# Altium integrated library Maxim Memory.IntLib: 366 symbols (part 5 of 7)
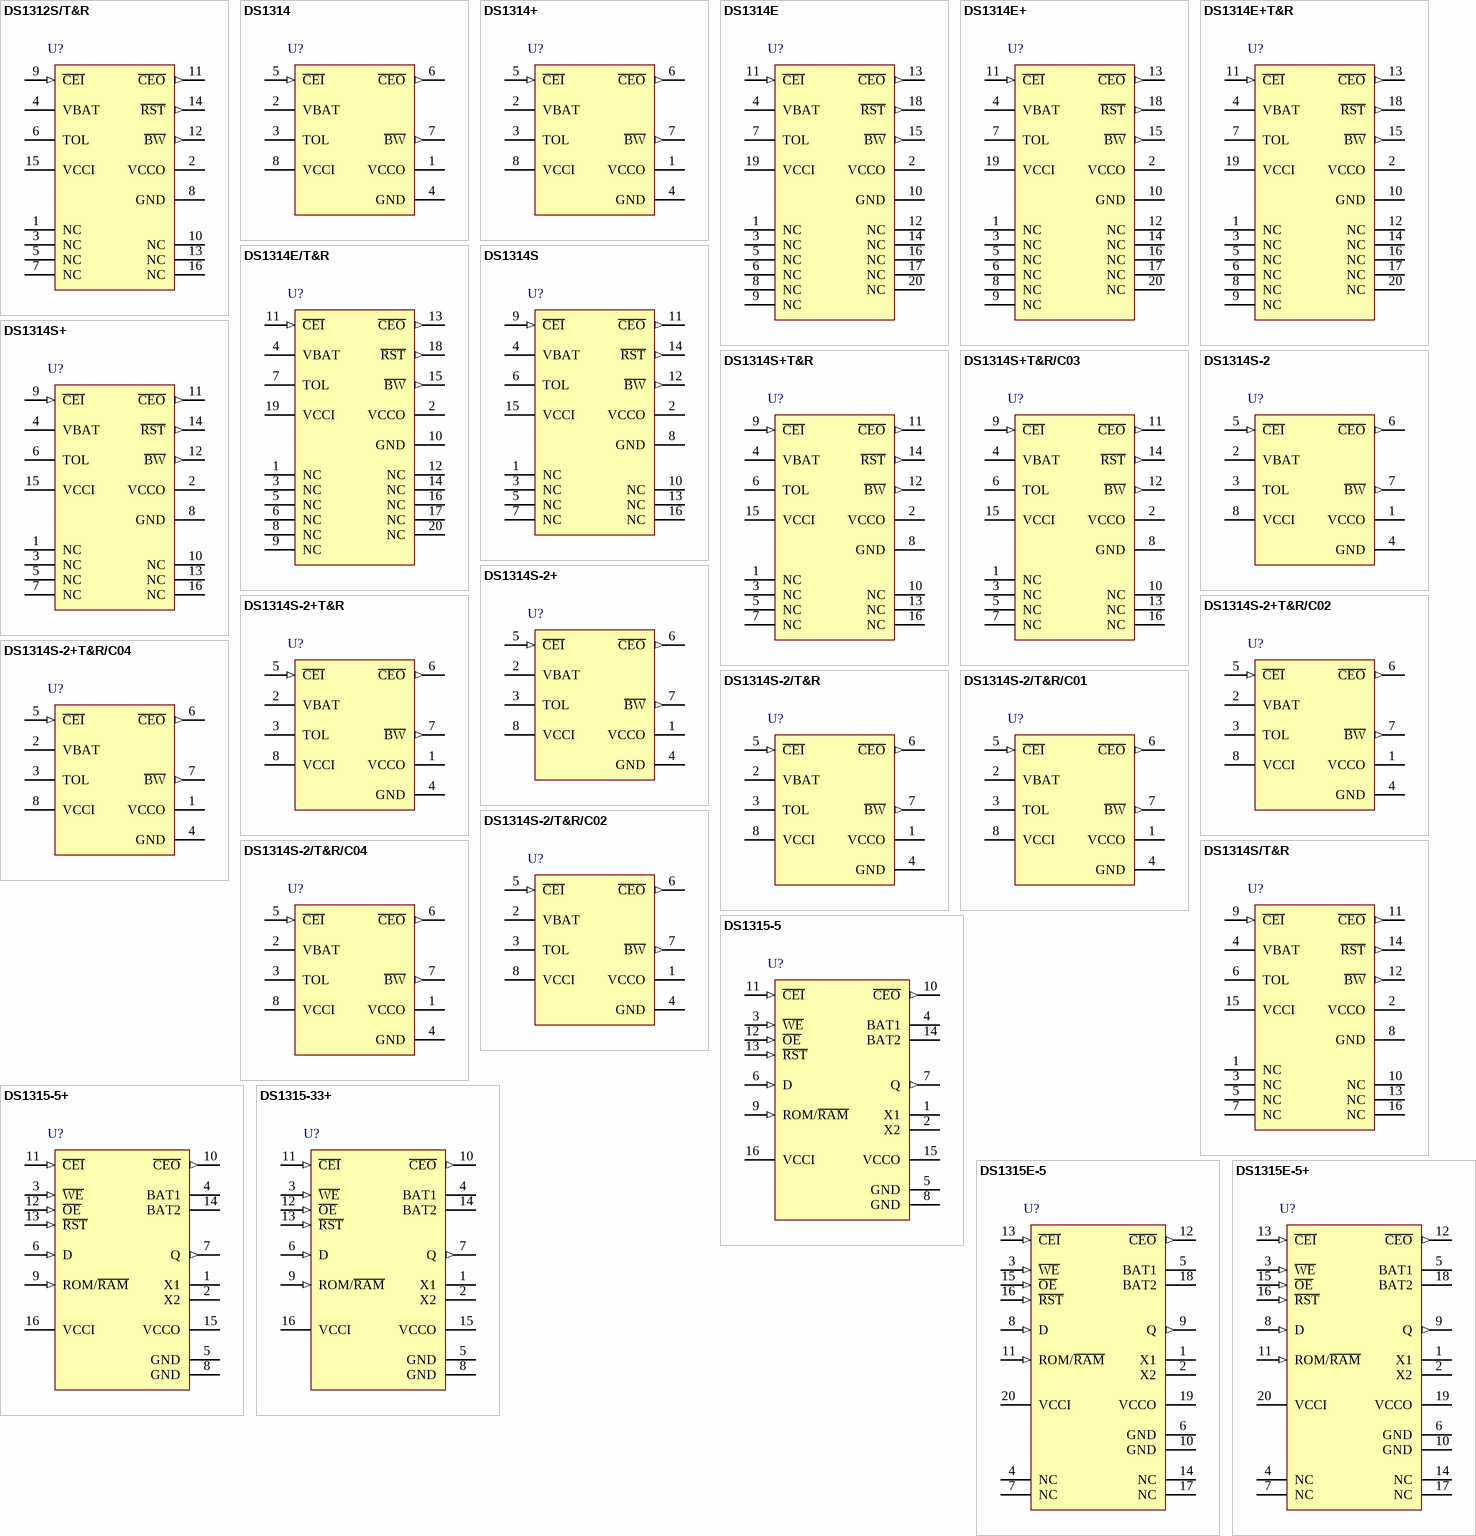
[diagram p17: symbols DS1312S/T&R to DS1315E-5+]

## DS1314E/T&R
designator U?
3V Nonvolatile Controller with Lithium Battery Monitor, 20-pin TSSOP, -40° to + 85° C, Tape and Reel; DatasheetVersion: 1/07/2005; PackageVersion: revL, 2010; PackageReference: U20-1; PackageDescription: 20-Pin Thin Shrink Small-Outline Package, 4.4 mm Body, TSSOP; Code_JEDEC: MO-153-AC; ComponentLink1Description: Manufacturer URL; ComponentLink1URL: www.maxim-ic.com; ComponentLink2Description: Datasheet; ComponentLink2URL: http://datasheets.maxim-ic.com/en/ds/DS1314.pdf
footprint U20-1_N (TSOP, 20-Leads, Body 6.5x4.4mm, Pitch 0.65mm, IPC Medium Density)
footprint U20-1_L (TSOP, 20-Leads, Body 6.5x4.4mm, Pitch 0.65mm, IPC High Density)
footprint U20-1_M (TSOP, 20-Leads, Body 6.5x4.4mm, Pitch 0.65mm, IPC Low Density)
pins: 1 NC, 2 VCCO (power), 3 NC, 4 VBAT, 5 NC, 6 NC, 7 TOL, 8 NC, 9 NC, 10 GND (power), 11 ~{CEI} (in), 12 NC, 13 ~{CEO} (out), 14 NC, 15 ~{BW} (out), 16 NC, 17 NC, 18 ~{RST} (out), 19 VCCI (power), 20 NC

## DS1314S
designator U?
3V Nonvolatile Controller with Lithium Battery Monitor, 16-pin SOIC, -40° to + 85° C; DatasheetVersion: 1/07/2005; PackageVersion: revD, 2010; PackageReference: W16-1; PackageDescription: 16-Pin Small-Outline IC, Wide (0.3in), 1.27 mm Pitch, SOIC (W); Code_JEDEC: MS-013-AA; Code_IPC: SOIC127P1030-16; ComponentLink1Description: Manufacturer URL; ComponentLink1URL: www.maxim-ic.com; ComponentLink2Description: Datasheet; ComponentLink2URL: http://datasheets.maxim-ic.com/en/ds/DS1314.pdf
footprint W16-1_N (SOIC, 16-Leads, Body 10.3x7.5mm, Pitch 1.27mm, IPC Medium Density)
footprint W16-1_L (SOIC, 16-Leads, Body 10.3x7.5mm, Pitch 1.27mm, IPC High Density)
footprint W16-1_M (SOIC, 16-Leads, Body 10.3x7.5mm, Pitch 1.27mm, IPC Low Density)
pins: 1 NC, 2 VCCO (power), 3 NC, 4 VBAT, 5 NC, 6 TOL, 7 NC, 8 GND (power), 9 ~{CEI} (in), 10 NC, 11 ~{CEO} (out), 12 ~{BW} (out), 13 NC, 14 ~{RST} (out), 15 VCCI (power), 16 NC

## DS1314S+
designator U?
3V Nonvolatile Controller with Lithium Battery Monitor, 16-pin SOIC, -40° to + 85° C, Pb-Free; DatasheetVersion: 1/07/2005; PackageVersion: revD, 2010; PackageReference: W16+1; PackageDescription: 16-Pin Small-Outline IC, Wide (0.3in), 1.27 mm Pitch, SOIC (W), Pb-Free; Code_JEDEC: MS-013-AA; Code_IPC: SOIC127P1030-16; ComponentLink1Description: Manufacturer URL; ComponentLink1URL: www.maxim-ic.com; ComponentLink2Description: Datasheet; ComponentLink2URL: http://datasheets.maxim-ic.com/en/ds/DS1314.pdf
footprint W16+1_N (SOIC, 16-Leads, Body 10.3x7.5mm, Pitch 1.27mm, IPC Medium Density)
footprint W16+1_L (SOIC, 16-Leads, Body 10.3x7.5mm, Pitch 1.27mm, IPC High Density)
footprint W16+1_M (SOIC, 16-Leads, Body 10.3x7.5mm, Pitch 1.27mm, IPC Low Density)
pins: 1 NC, 2 VCCO (power), 3 NC, 4 VBAT, 5 NC, 6 TOL, 7 NC, 8 GND (power), 9 ~{CEI} (in), 10 NC, 11 ~{CEO} (out), 12 ~{BW} (out), 13 NC, 14 ~{RST} (out), 15 VCCI (power), 16 NC

## DS1314S+T&R
designator U?
3V Nonvolatile Controller with Lithium Battery Monitor, 16-pin SOIC, -40° to + 85° C, Pb-Free, Tape and Reel; DatasheetVersion: 1/07/2005; PackageVersion: revD, 2010; PackageReference: W16+1; PackageDescription: 16-Pin Small-Outline IC, Wide (0.3in), 1.27 mm Pitch, SOIC (W), Pb-Free; Code_JEDEC: MS-013-AA; Code_IPC: SOIC127P1030-16; ComponentLink1Description: Manufacturer URL; ComponentLink1URL: www.maxim-ic.com; ComponentLink2Description: Datasheet; ComponentLink2URL: http://datasheets.maxim-ic.com/en/ds/DS1314.pdf
footprint W16+1_N (SOIC, 16-Leads, Body 10.3x7.5mm, Pitch 1.27mm, IPC Medium Density)
footprint W16+1_L (SOIC, 16-Leads, Body 10.3x7.5mm, Pitch 1.27mm, IPC High Density)
footprint W16+1_M (SOIC, 16-Leads, Body 10.3x7.5mm, Pitch 1.27mm, IPC Low Density)
pins: 1 NC, 2 VCCO (power), 3 NC, 4 VBAT, 5 NC, 6 TOL, 7 NC, 8 GND (power), 9 ~{CEI} (in), 10 NC, 11 ~{CEO} (out), 12 ~{BW} (out), 13 NC, 14 ~{RST} (out), 15 VCCI (power), 16 NC

## DS1314S+T&R/C03
designator U?
3V Nonvolatile Controller with Lithium Battery Monitor, 16-pin SOIC, -40° to + 85° C, Pb-Free, Tape and Reel; DatasheetVersion: 1/07/2005; PackageVersion: revD, 2010; PackageReference: W16+1; PackageDescription: 16-Pin Small-Outline IC, Wide (0.3in), 1.27 mm Pitch, SOIC (W), Pb-Free; Code_JEDEC: MS-013-AA; Code_IPC: SOIC127P1030-16; ComponentLink1Description: Manufacturer URL; ComponentLink1URL: www.maxim-ic.com; ComponentLink2Description: Datasheet; ComponentLink2URL: http://datasheets.maxim-ic.com/en/ds/DS1314.pdf
footprint W16+1_N (SOIC, 16-Leads, Body 10.3x7.5mm, Pitch 1.27mm, IPC Medium Density)
footprint W16+1_L (SOIC, 16-Leads, Body 10.3x7.5mm, Pitch 1.27mm, IPC High Density)
footprint W16+1_M (SOIC, 16-Leads, Body 10.3x7.5mm, Pitch 1.27mm, IPC Low Density)
pins: 1 NC, 2 VCCO (power), 3 NC, 4 VBAT, 5 NC, 6 TOL, 7 NC, 8 GND (power), 9 ~{CEI} (in), 10 NC, 11 ~{CEO} (out), 12 ~{BW} (out), 13 NC, 14 ~{RST} (out), 15 VCCI (power), 16 NC

## DS1314S-2
designator U?
3V Nonvolatile Controller with Lithium Battery Monitor, 8-pin SOIC, -40° to + 85° C; DatasheetVersion: 1/07/2005; PackageVersion: revC, 2010; PackageReference: S8-4; PackageDescription: 8-Pin Small-Outline IC, Narrow (0.15in), 1.27 mm Pitch, SOIC (N); Code_JEDEC: MS-012-AA; Code_IPC: SOIC127P600-8; ComponentLink1Description: Manufacturer URL; ComponentLink1URL: www.maxim-ic.com; ComponentLink2Description: Datasheet; ComponentLink2URL: http://datasheets.maxim-ic.com/en/ds/DS1314.pdf
footprint S8-4_N (SOIC, 8-Leads, Body 4.9x3.9mm, Pitch 1.27mm, IPC Medium Density)
footprint S8-4_L (SOIC, 8-Leads, Body 4.9x3.9mm, Pitch 1.27mm, IPC High Density)
footprint S8-4_M (SOIC, 8-Leads, Body 4.9x3.9mm, Pitch 1.27mm, IPC Low Density)
pins: 1 VCCO (power), 2 VBAT, 3 TOL, 4 GND (power), 5 ~{CEI} (in), 6 ~{CEO} (out), 7 ~{BW} (out), 8 VCCI (power)

## DS1314S-2+
designator U?
3V Nonvolatile Controller with Lithium Battery Monitor, 8-pin SOIC, -40° to + 85° C, Pb-Free; DatasheetVersion: 1/07/2005; PackageVersion: revC, 2010; PackageReference: S8+4; PackageDescription: 8-Pin Small-Outline IC, Narrow (0.15in), 1.27 mm Pitch, SOIC (N), Pb-Free; Code_JEDEC: MS-012-AA; Code_IPC: SOIC127P600-8; ComponentLink1Description: Manufacturer URL; ComponentLink1URL: www.maxim-ic.com; ComponentLink2Description: Datasheet; ComponentLink2URL: http://datasheets.maxim-ic.com/en/ds/DS1314.pdf
footprint S8+4_N (SOIC, 8-Leads, Body 4.9x3.9mm, Pitch 1.27mm, IPC Medium Density)
footprint S8+4_L (SOIC, 8-Leads, Body 4.9x3.9mm, Pitch 1.27mm, IPC High Density)
footprint S8+4_M (SOIC, 8-Leads, Body 4.9x3.9mm, Pitch 1.27mm, IPC Low Density)
pins: 1 VCCO (power), 2 VBAT, 3 TOL, 4 GND (power), 5 ~{CEI} (in), 6 ~{CEO} (out), 7 ~{BW} (out), 8 VCCI (power)

## DS1314S-2+T&R
designator U?
3V Nonvolatile Controller with Lithium Battery Monitor, 8-pin SOIC, -40° to + 85° C, Pb-Free, Tape and Reel; DatasheetVersion: 1/07/2005; PackageVersion: revC, 2010; PackageReference: S8+4; PackageDescription: 8-Pin Small-Outline IC, Narrow (0.15in), 1.27 mm Pitch, SOIC (N), Pb-Free; Code_JEDEC: MS-012-AA; Code_IPC: SOIC127P600-8; ComponentLink1Description: Manufacturer URL; ComponentLink1URL: www.maxim-ic.com; ComponentLink2Description: Datasheet; ComponentLink2URL: http://datasheets.maxim-ic.com/en/ds/DS1314.pdf
footprint S8+4_N (SOIC, 8-Leads, Body 4.9x3.9mm, Pitch 1.27mm, IPC Medium Density)
footprint S8+4_L (SOIC, 8-Leads, Body 4.9x3.9mm, Pitch 1.27mm, IPC High Density)
footprint S8+4_M (SOIC, 8-Leads, Body 4.9x3.9mm, Pitch 1.27mm, IPC Low Density)
pins: 1 VCCO (power), 2 VBAT, 3 TOL, 4 GND (power), 5 ~{CEI} (in), 6 ~{CEO} (out), 7 ~{BW} (out), 8 VCCI (power)

## DS1314S-2+T&R/C02
designator U?
3V Nonvolatile Controller with Lithium Battery Monitor, 8-pin SOIC, -40° to + 85° C, Pb-Free, Tape and Reel; DatasheetVersion: 1/07/2005; PackageVersion: revC, 2010; PackageReference: S8+4; PackageDescription: 8-Pin Small-Outline IC, Narrow (0.15in), 1.27 mm Pitch, SOIC (N), Pb-Free; Code_JEDEC: MS-012-AA; Code_IPC: SOIC127P600-8; ComponentLink1Description: Manufacturer URL; ComponentLink1URL: www.maxim-ic.com; ComponentLink2Description: Datasheet; ComponentLink2URL: http://datasheets.maxim-ic.com/en/ds/DS1314.pdf
footprint S8+4_N (SOIC, 8-Leads, Body 4.9x3.9mm, Pitch 1.27mm, IPC Medium Density)
footprint S8+4_L (SOIC, 8-Leads, Body 4.9x3.9mm, Pitch 1.27mm, IPC High Density)
footprint S8+4_M (SOIC, 8-Leads, Body 4.9x3.9mm, Pitch 1.27mm, IPC Low Density)
pins: 1 VCCO (power), 2 VBAT, 3 TOL, 4 GND (power), 5 ~{CEI} (in), 6 ~{CEO} (out), 7 ~{BW} (out), 8 VCCI (power)

## DS1314S-2+T&R/C04
designator U?
3V Nonvolatile Controller with Lithium Battery Monitor, 8-pin SOIC, -40° to + 85° C, Pb-Free, Tape and Reel; DatasheetVersion: 1/07/2005; PackageVersion: revC, 2010; PackageReference: S8+4; PackageDescription: 8-Pin Small-Outline IC, Narrow (0.15in), 1.27 mm Pitch, SOIC (N), Pb-Free; Code_JEDEC: MS-012-AA; Code_IPC: SOIC127P600-8; ComponentLink1Description: Manufacturer URL; ComponentLink1URL: www.maxim-ic.com; ComponentLink2Description: Datasheet; ComponentLink2URL: http://datasheets.maxim-ic.com/en/ds/DS1314.pdf
footprint S8+4_N (SOIC, 8-Leads, Body 4.9x3.9mm, Pitch 1.27mm, IPC Medium Density)
footprint S8+4_L (SOIC, 8-Leads, Body 4.9x3.9mm, Pitch 1.27mm, IPC High Density)
footprint S8+4_M (SOIC, 8-Leads, Body 4.9x3.9mm, Pitch 1.27mm, IPC Low Density)
pins: 1 VCCO (power), 2 VBAT, 3 TOL, 4 GND (power), 5 ~{CEI} (in), 6 ~{CEO} (out), 7 ~{BW} (out), 8 VCCI (power)

## DS1314S-2/T&R
designator U?
3V Nonvolatile Controller with Lithium Battery Monitor, 8-pin SOIC, -40° to + 85° C, Tape and Reel; DatasheetVersion: 1/07/2005; PackageVersion: revC, 2010; PackageReference: S8-4; PackageDescription: 8-Pin Small-Outline IC, Narrow (0.15in), 1.27 mm Pitch, SOIC (N); Code_JEDEC: MS-012-AA; Code_IPC: SOIC127P600-8; ComponentLink1Description: Manufacturer URL; ComponentLink1URL: www.maxim-ic.com; ComponentLink2Description: Datasheet; ComponentLink2URL: http://datasheets.maxim-ic.com/en/ds/DS1314.pdf
footprint S8-4_N (SOIC, 8-Leads, Body 4.9x3.9mm, Pitch 1.27mm, IPC Medium Density)
footprint S8-4_L (SOIC, 8-Leads, Body 4.9x3.9mm, Pitch 1.27mm, IPC High Density)
footprint S8-4_M (SOIC, 8-Leads, Body 4.9x3.9mm, Pitch 1.27mm, IPC Low Density)
pins: 1 VCCO (power), 2 VBAT, 3 TOL, 4 GND (power), 5 ~{CEI} (in), 6 ~{CEO} (out), 7 ~{BW} (out), 8 VCCI (power)

## DS1314S-2/T&R/C01
designator U?
3V Nonvolatile Controller with Lithium Battery Monitor, 8-pin SOIC, -40° to + 85° C, Tape and Reel; DatasheetVersion: 1/07/2005; PackageVersion: revC, 2010; PackageReference: S8-4; PackageDescription: 8-Pin Small-Outline IC, Narrow (0.15in), 1.27 mm Pitch, SOIC (N); Code_JEDEC: MS-012-AA; Code_IPC: SOIC127P600-8; ComponentLink1Description: Manufacturer URL; ComponentLink1URL: www.maxim-ic.com; ComponentLink2Description: Datasheet; ComponentLink2URL: http://datasheets.maxim-ic.com/en/ds/DS1314.pdf
footprint S8-4_N (SOIC, 8-Leads, Body 4.9x3.9mm, Pitch 1.27mm, IPC Medium Density)
footprint S8-4_L (SOIC, 8-Leads, Body 4.9x3.9mm, Pitch 1.27mm, IPC High Density)
footprint S8-4_M (SOIC, 8-Leads, Body 4.9x3.9mm, Pitch 1.27mm, IPC Low Density)
pins: 1 VCCO (power), 2 VBAT, 3 TOL, 4 GND (power), 5 ~{CEI} (in), 6 ~{CEO} (out), 7 ~{BW} (out), 8 VCCI (power)

## DS1314S-2/T&R/C02
designator U?
3V Nonvolatile Controller with Lithium Battery Monitor, 8-pin SOIC, -40° to + 85° C, Tape and Reel; DatasheetVersion: 1/07/2005; PackageVersion: revC, 2010; PackageReference: S8-4; PackageDescription: 8-Pin Small-Outline IC, Narrow (0.15in), 1.27 mm Pitch, SOIC (N); Code_JEDEC: MS-012-AA; Code_IPC: SOIC127P600-8; ComponentLink1Description: Manufacturer URL; ComponentLink1URL: www.maxim-ic.com; ComponentLink2Description: Datasheet; ComponentLink2URL: http://datasheets.maxim-ic.com/en/ds/DS1314.pdf
footprint S8-4_N (SOIC, 8-Leads, Body 4.9x3.9mm, Pitch 1.27mm, IPC Medium Density)
footprint S8-4_L (SOIC, 8-Leads, Body 4.9x3.9mm, Pitch 1.27mm, IPC High Density)
footprint S8-4_M (SOIC, 8-Leads, Body 4.9x3.9mm, Pitch 1.27mm, IPC Low Density)
pins: 1 VCCO (power), 2 VBAT, 3 TOL, 4 GND (power), 5 ~{CEI} (in), 6 ~{CEO} (out), 7 ~{BW} (out), 8 VCCI (power)

## DS1314S-2/T&R/C04
designator U?
3V Nonvolatile Controller with Lithium Battery Monitor, 8-pin SOIC, -40° to + 85° C, Tape and Reel; DatasheetVersion: 1/07/2005; PackageVersion: revC, 2010; PackageReference: S8-4; PackageDescription: 8-Pin Small-Outline IC, Narrow (0.15in), 1.27 mm Pitch, SOIC (N); Code_JEDEC: MS-012-AA; Code_IPC: SOIC127P600-8; ComponentLink1Description: Manufacturer URL; ComponentLink1URL: www.maxim-ic.com; ComponentLink2Description: Datasheet; ComponentLink2URL: http://datasheets.maxim-ic.com/en/ds/DS1314.pdf
footprint S8-4_N (SOIC, 8-Leads, Body 4.9x3.9mm, Pitch 1.27mm, IPC Medium Density)
footprint S8-4_L (SOIC, 8-Leads, Body 4.9x3.9mm, Pitch 1.27mm, IPC High Density)
footprint S8-4_M (SOIC, 8-Leads, Body 4.9x3.9mm, Pitch 1.27mm, IPC Low Density)
pins: 1 VCCO (power), 2 VBAT, 3 TOL, 4 GND (power), 5 ~{CEI} (in), 6 ~{CEO} (out), 7 ~{BW} (out), 8 VCCI (power)

## DS1314S/T&R
designator U?
3V Nonvolatile Controller with Lithium Battery Monitor, 16-pin SOIC, -40° to + 85° C, Tape and Reel; DatasheetVersion: 1/07/2005; PackageVersion: revD, 2010; PackageReference: W16-1; PackageDescription: 16-Pin Small-Outline IC, Wide (0.3in), 1.27 mm Pitch, SOIC (W); Code_JEDEC: MS-013-AA; Code_IPC: SOIC127P1030-16; ComponentLink1Description: Manufacturer URL; ComponentLink1URL: www.maxim-ic.com; ComponentLink2Description: Datasheet; ComponentLink2URL: http://datasheets.maxim-ic.com/en/ds/DS1314.pdf
footprint W16-1_N (SOIC, 16-Leads, Body 10.3x7.5mm, Pitch 1.27mm, IPC Medium Density)
footprint W16-1_L (SOIC, 16-Leads, Body 10.3x7.5mm, Pitch 1.27mm, IPC High Density)
footprint W16-1_M (SOIC, 16-Leads, Body 10.3x7.5mm, Pitch 1.27mm, IPC Low Density)
pins: 1 NC, 2 VCCO (power), 3 NC, 4 VBAT, 5 NC, 6 TOL, 7 NC, 8 GND (power), 9 ~{CEI} (in), 10 NC, 11 ~{CEO} (out), 12 ~{BW} (out), 13 NC, 14 ~{RST} (out), 15 VCCI (power), 16 NC

## DS1315-5
designator U?
Phantom Time Chip, 16-pin PDIP, 0° to + 70° C; DatasheetVersion: 1/05/2009; PackageVersion: revE, 2011; PackageReference: P16-1; PackageDescription: 16-Pin Plastic Dual-In-Line, Narrow (0.3in), Pitch 2.54 mm, PDIP(N); Code_JEDEC: MS-001-AA; ComponentLink1Description: Manufacturer URL; ComponentLink1URL: www.maxim-ic.com; ComponentLink2Description: Datasheet; ComponentLink2URL: http://datasheets.maxim-ic.com/en/ds/DS1315.pdf
footprint P16-1 (DIP, 16-Leads, Row Spacing 7.62mm, Pitch 2.54mm, Body 19.2x7mm)
pins: 1 X1, 2 X2, 3 ~{WE} (in), 4 BAT1, 5 GND (power), 6 D (in), 7 Q (out), 8 GND (power), 9 ROM/~{RAM} (in), 10 ~{CEO} (out), 11 ~{CEI} (in), 12 ~{OE} (in), 13 ~{RST} (in), 14 BAT2, 15 VCCO (power), 16 VCCI (power)

## DS1315-5+
designator U?
Phantom Time Chip, 16-pin PDIP, 0° to + 70° C, Pb-Free; DatasheetVersion: 1/05/2009; PackageVersion: revE, 2011; PackageReference: P16+2; PackageDescription: 16-Pin Plastic Dual-In-Line, Narrow (0.3in), Pitch 2.54 mm, PDIP(N), Pb-Free; Code_JEDEC: MS-001-AA; ComponentLink1Description: Manufacturer URL; ComponentLink1URL: www.maxim-ic.com; ComponentLink2Description: Datasheet; ComponentLink2URL: http://datasheets.maxim-ic.com/en/ds/DS1315.pdf
footprint P16+2 (DIP, 16-Leads, Row Spacing 7.62mm, Pitch 2.54mm, Body 19.2x7mm)
pins: 1 X1, 2 X2, 3 ~{WE} (in), 4 BAT1, 5 GND (power), 6 D (in), 7 Q (out), 8 GND (power), 9 ROM/~{RAM} (in), 10 ~{CEO} (out), 11 ~{CEI} (in), 12 ~{OE} (in), 13 ~{RST} (in), 14 BAT2, 15 VCCO (power), 16 VCCI (power)

## DS1315-33+
designator U?
Phantom Time Chip, 16-pin PDIP, 0° to + 70° C, Pb-Free; DatasheetVersion: 1/05/2009; PackageVersion: revE, 2011; PackageReference: P16+1; PackageDescription: 16-Pin Plastic Dual-In-Line, Narrow (0.3in), Pitch 2.54 mm, PDIP(N), Pb-Free; Code_JEDEC: MS-001-AA; ComponentLink1Description: Manufacturer URL; ComponentLink1URL: www.maxim-ic.com; ComponentLink2Description: Datasheet; ComponentLink2URL: http://datasheets.maxim-ic.com/en/ds/DS1315.pdf
footprint P16+1 (DIP, 16-Leads, Row Spacing 7.62mm, Pitch 2.54mm, Body 19.2x7mm)
pins: 1 X1, 2 X2, 3 ~{WE} (in), 4 BAT1, 5 GND (power), 6 D (in), 7 Q (out), 8 GND (power), 9 ROM/~{RAM} (in), 10 ~{CEO} (out), 11 ~{CEI} (in), 12 ~{OE} (in), 13 ~{RST} (in), 14 BAT2, 15 VCCO (power), 16 VCCI (power)

## DS1315E-5
designator U?
Phantom Time Chip, 20-pin TSSOP, 0° to + 70° C; DatasheetVersion: 1/05/2009; PackageVersion: revL, 2010; PackageReference: U20-1; PackageDescription: 20-Pin Thin Shrink Small-Outline Package, 4.4 mm Body, TSSOP; Code_JEDEC: MO-153-AC; ComponentLink1Description: Manufacturer URL; ComponentLink1URL: www.maxim-ic.com; ComponentLink2Description: Datasheet; ComponentLink2URL: http://datasheets.maxim-ic.com/en/ds/DS1315.pdf
footprint U20-1_N (TSOP, 20-Leads, Body 6.5x4.4mm, Pitch 0.65mm, IPC Medium Density)
footprint U20-1_L (TSOP, 20-Leads, Body 6.5x4.4mm, Pitch 0.65mm, IPC High Density)
footprint U20-1_M (TSOP, 20-Leads, Body 6.5x4.4mm, Pitch 0.65mm, IPC Low Density)
pins: 1 X1, 2 X2, 3 ~{WE} (in), 4 NC, 5 BAT1, 6 GND (power), 7 NC, 8 D (in), 9 Q (out), 10 GND (power), 11 ROM/~{RAM} (in), 12 ~{CEO} (out), 13 ~{CEI} (in), 14 NC, 15 ~{OE} (in), 16 ~{RST} (in), 17 NC, 18 BAT2, 19 VCCO (power), 20 VCCI (power)

## DS1315E-5+
designator U?
Phantom Time Chip, 20-pin TSSOP, 0° to + 70° C, Pb-Free; DatasheetVersion: 1/05/2009; PackageVersion: revL, 2010; PackageReference: U20+1; PackageDescription: 20-Pin Thin Shrink Small-Outline Package, 4.4 mm Body, TSSOP, Pb-Free; Code_JEDEC: MO-153-AC; ComponentLink1Description: Manufacturer URL; ComponentLink1URL: www.maxim-ic.com; ComponentLink2Description: Datasheet; ComponentLink2URL: http://datasheets.maxim-ic.com/en/ds/DS1315.pdf
footprint U20+1_N (TSOP, 20-Leads, Body 6.5x4.4mm, Pitch 0.65mm, IPC Medium Density)
footprint U20+1_L (TSOP, 20-Leads, Body 6.5x4.4mm, Pitch 0.65mm, IPC High Density)
footprint U20+1_M (TSOP, 20-Leads, Body 6.5x4.4mm, Pitch 0.65mm, IPC Low Density)
pins: 1 X1, 2 X2, 3 ~{WE} (in), 4 NC, 5 BAT1, 6 GND (power), 7 NC, 8 D (in), 9 Q (out), 10 GND (power), 11 ROM/~{RAM} (in), 12 ~{CEO} (out), 13 ~{CEI} (in), 14 NC, 15 ~{OE} (in), 16 ~{RST} (in), 17 NC, 18 BAT2, 19 VCCO (power), 20 VCCI (power)

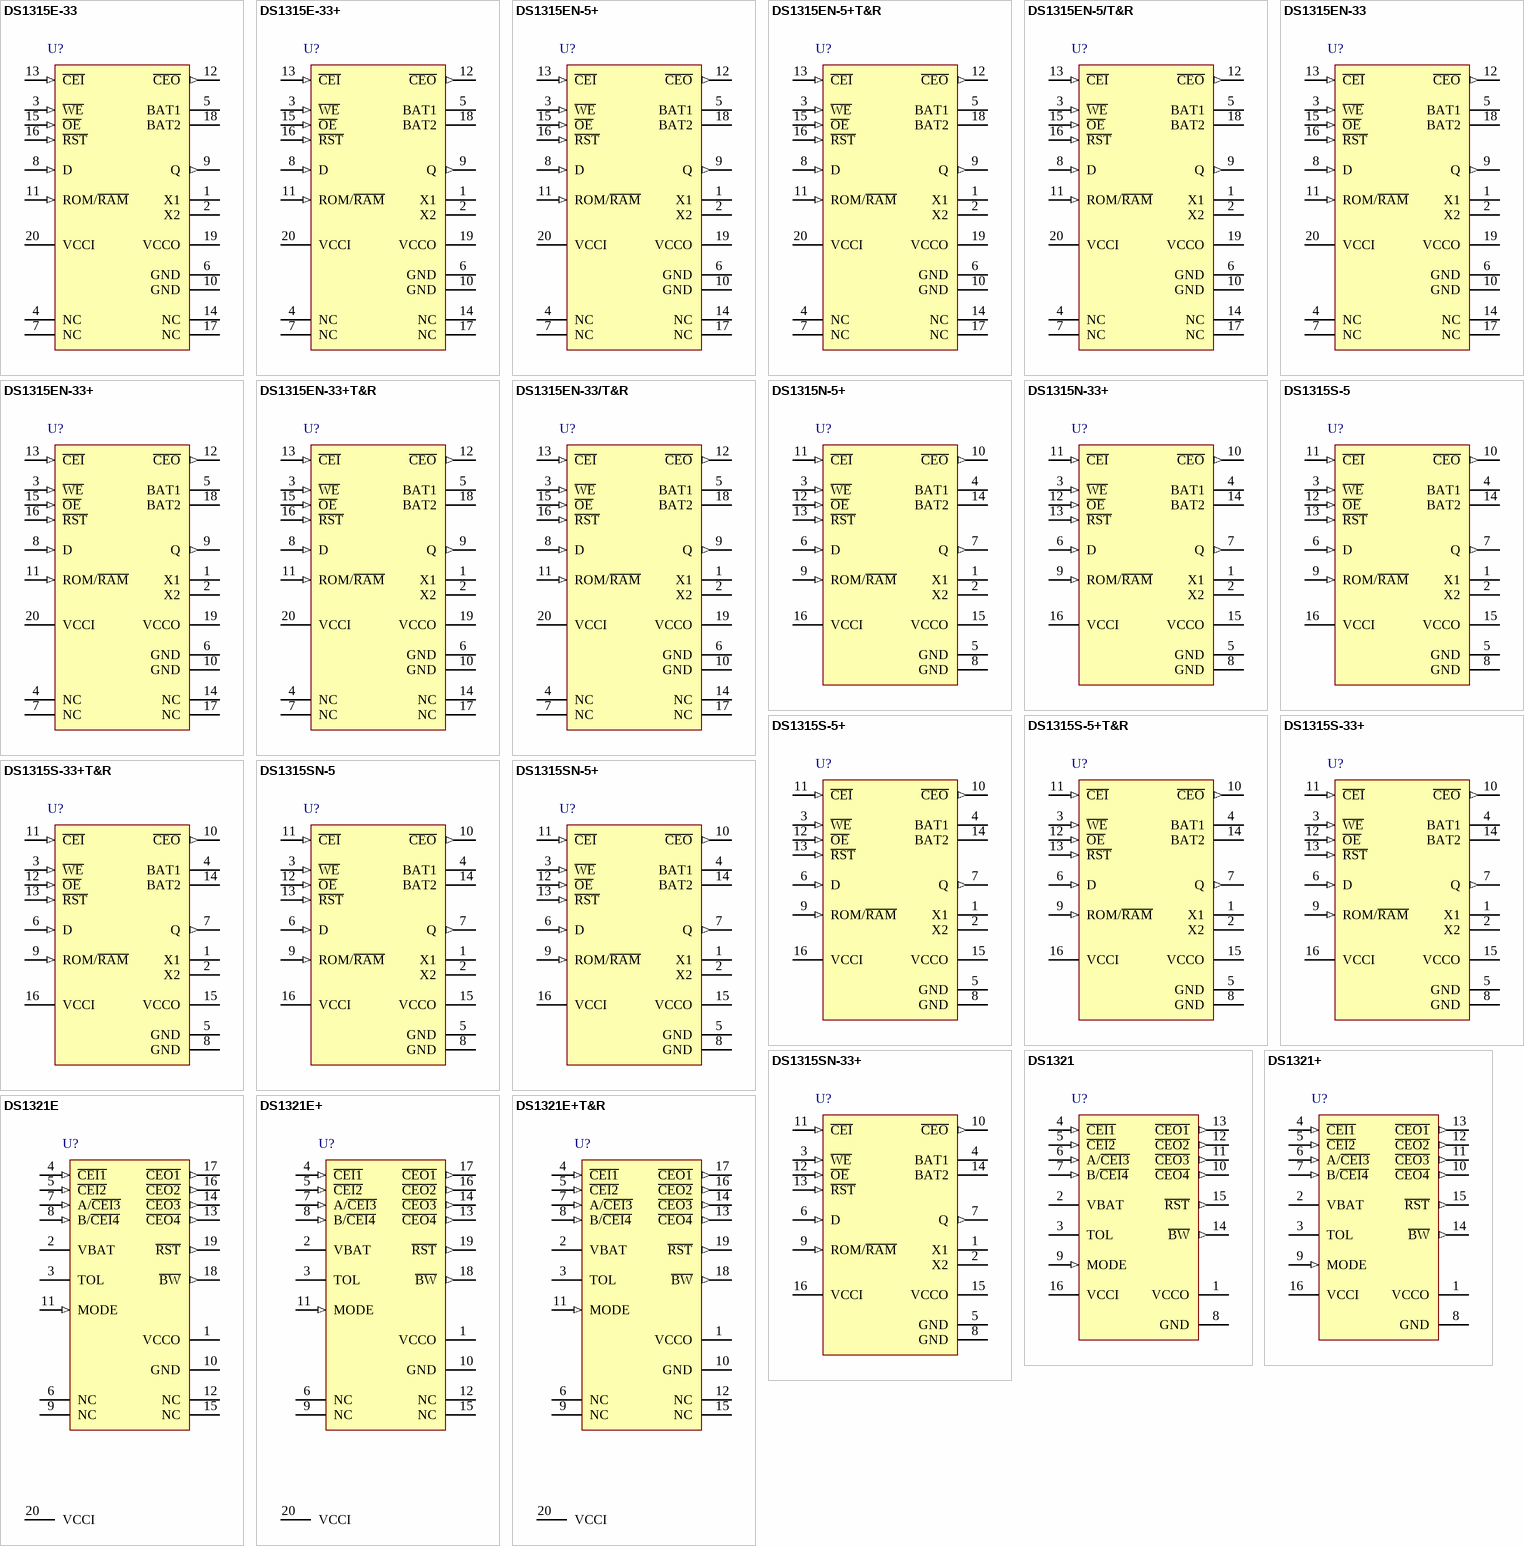
[diagram p9: symbols DS1315E-33 to DS1321E+T&R]

## DS1315E-33
designator U?
Phantom Time Chip, 20-pin TSSOP, 0° to + 70° C; DatasheetVersion: 1/05/2009; PackageVersion: revL, 2010; PackageReference: U20-1; PackageDescription: 20-Pin Thin Shrink Small-Outline Package, 4.4 mm Body, TSSOP; Code_JEDEC: MO-153-AC; ComponentLink1Description: Manufacturer URL; ComponentLink1URL: www.maxim-ic.com; ComponentLink2Description: Datasheet; ComponentLink2URL: http://datasheets.maxim-ic.com/en/ds/DS1315.pdf
footprint U20-1_N (TSOP, 20-Leads, Body 6.5x4.4mm, Pitch 0.65mm, IPC Medium Density)
footprint U20-1_L (TSOP, 20-Leads, Body 6.5x4.4mm, Pitch 0.65mm, IPC High Density)
footprint U20-1_M (TSOP, 20-Leads, Body 6.5x4.4mm, Pitch 0.65mm, IPC Low Density)
pins: 1 X1, 2 X2, 3 ~{WE} (in), 4 NC, 5 BAT1, 6 GND (power), 7 NC, 8 D (in), 9 Q (out), 10 GND (power), 11 ROM/~{RAM} (in), 12 ~{CEO} (out), 13 ~{CEI} (in), 14 NC, 15 ~{OE} (in), 16 ~{RST} (in), 17 NC, 18 BAT2, 19 VCCO (power), 20 VCCI (power)

## DS1315E-33+
designator U?
Phantom Time Chip, 20-pin TSSOP, 0° to + 70° C, Pb-Free; DatasheetVersion: 1/05/2009; PackageVersion: revL, 2010; PackageReference: U20+1; PackageDescription: 20-Pin Thin Shrink Small-Outline Package, 4.4 mm Body, TSSOP, Pb-Free; Code_JEDEC: MO-153-AC; ComponentLink1Description: Manufacturer URL; ComponentLink1URL: www.maxim-ic.com; ComponentLink2Description: Datasheet; ComponentLink2URL: http://datasheets.maxim-ic.com/en/ds/DS1315.pdf
footprint U20+1_N (TSOP, 20-Leads, Body 6.5x4.4mm, Pitch 0.65mm, IPC Medium Density)
footprint U20+1_L (TSOP, 20-Leads, Body 6.5x4.4mm, Pitch 0.65mm, IPC High Density)
footprint U20+1_M (TSOP, 20-Leads, Body 6.5x4.4mm, Pitch 0.65mm, IPC Low Density)
pins: 1 X1, 2 X2, 3 ~{WE} (in), 4 NC, 5 BAT1, 6 GND (power), 7 NC, 8 D (in), 9 Q (out), 10 GND (power), 11 ROM/~{RAM} (in), 12 ~{CEO} (out), 13 ~{CEI} (in), 14 NC, 15 ~{OE} (in), 16 ~{RST} (in), 17 NC, 18 BAT2, 19 VCCO (power), 20 VCCI (power)

## DS1315EN-5+
designator U?
Phantom Time Chip, 20-pin TSSOP, -40° to + 85° C, Pb-Free; DatasheetVersion: 1/05/2009; PackageVersion: revL, 2010; PackageReference: U20+1; PackageDescription: 20-Pin Thin Shrink Small-Outline Package, 4.4 mm Body, TSSOP, Pb-Free; Code_JEDEC: MO-153-AC; ComponentLink1Description: Manufacturer URL; ComponentLink1URL: www.maxim-ic.com; ComponentLink2Description: Datasheet; ComponentLink2URL: http://datasheets.maxim-ic.com/en/ds/DS1315.pdf
footprint U20+1_N (TSOP, 20-Leads, Body 6.5x4.4mm, Pitch 0.65mm, IPC Medium Density)
footprint U20+1_L (TSOP, 20-Leads, Body 6.5x4.4mm, Pitch 0.65mm, IPC High Density)
footprint U20+1_M (TSOP, 20-Leads, Body 6.5x4.4mm, Pitch 0.65mm, IPC Low Density)
pins: 1 X1, 2 X2, 3 ~{WE} (in), 4 NC, 5 BAT1, 6 GND (power), 7 NC, 8 D (in), 9 Q (out), 10 GND (power), 11 ROM/~{RAM} (in), 12 ~{CEO} (out), 13 ~{CEI} (in), 14 NC, 15 ~{OE} (in), 16 ~{RST} (in), 17 NC, 18 BAT2, 19 VCCO (power), 20 VCCI (power)

## DS1315EN-5+T&R
designator U?
Phantom Time Chip, 20-pin TSSOP, -40° to + 85° C, Pb-Free, Tape and Reel; DatasheetVersion: 1/05/2009; PackageVersion: revL, 2010; PackageReference: U20+1; PackageDescription: 20-Pin Thin Shrink Small-Outline Package, 4.4 mm Body, TSSOP, Pb-Free; Code_JEDEC: MO-153-AC; ComponentLink1Description: Manufacturer URL; ComponentLink1URL: www.maxim-ic.com; ComponentLink2Description: Datasheet; ComponentLink2URL: http://datasheets.maxim-ic.com/en/ds/DS1315.pdf
footprint U20+1_N (TSOP, 20-Leads, Body 6.5x4.4mm, Pitch 0.65mm, IPC Medium Density)
footprint U20+1_L (TSOP, 20-Leads, Body 6.5x4.4mm, Pitch 0.65mm, IPC High Density)
footprint U20+1_M (TSOP, 20-Leads, Body 6.5x4.4mm, Pitch 0.65mm, IPC Low Density)
pins: 1 X1, 2 X2, 3 ~{WE} (in), 4 NC, 5 BAT1, 6 GND (power), 7 NC, 8 D (in), 9 Q (out), 10 GND (power), 11 ROM/~{RAM} (in), 12 ~{CEO} (out), 13 ~{CEI} (in), 14 NC, 15 ~{OE} (in), 16 ~{RST} (in), 17 NC, 18 BAT2, 19 VCCO (power), 20 VCCI (power)

## DS1315EN-5/T&R
designator U?
Phantom Time Chip, 20-pin TSSOP, -40° to + 85° C, Tape and Reel; DatasheetVersion: 1/05/2009; PackageVersion: revL, 2010; PackageReference: U20-1; PackageDescription: 20-Pin Thin Shrink Small-Outline Package, 4.4 mm Body, TSSOP; Code_JEDEC: MO-153-AC; ComponentLink1Description: Manufacturer URL; ComponentLink1URL: www.maxim-ic.com; ComponentLink2Description: Datasheet; ComponentLink2URL: http://datasheets.maxim-ic.com/en/ds/DS1315.pdf
footprint U20-1_N (TSOP, 20-Leads, Body 6.5x4.4mm, Pitch 0.65mm, IPC Medium Density)
footprint U20-1_L (TSOP, 20-Leads, Body 6.5x4.4mm, Pitch 0.65mm, IPC High Density)
footprint U20-1_M (TSOP, 20-Leads, Body 6.5x4.4mm, Pitch 0.65mm, IPC Low Density)
pins: 1 X1, 2 X2, 3 ~{WE} (in), 4 NC, 5 BAT1, 6 GND (power), 7 NC, 8 D (in), 9 Q (out), 10 GND (power), 11 ROM/~{RAM} (in), 12 ~{CEO} (out), 13 ~{CEI} (in), 14 NC, 15 ~{OE} (in), 16 ~{RST} (in), 17 NC, 18 BAT2, 19 VCCO (power), 20 VCCI (power)

## DS1315EN-33
designator U?
Phantom Time Chip, 20-pin TSSOP, -40° to + 85° C; DatasheetVersion: 1/05/2009; PackageVersion: revL, 2010; PackageReference: U20-1; PackageDescription: 20-Pin Thin Shrink Small-Outline Package, 4.4 mm Body, TSSOP; Code_JEDEC: MO-153-AC; ComponentLink1Description: Manufacturer URL; ComponentLink1URL: www.maxim-ic.com; ComponentLink2Description: Datasheet; ComponentLink2URL: http://datasheets.maxim-ic.com/en/ds/DS1315.pdf
footprint U20-1_N (TSOP, 20-Leads, Body 6.5x4.4mm, Pitch 0.65mm, IPC Medium Density)
footprint U20-1_L (TSOP, 20-Leads, Body 6.5x4.4mm, Pitch 0.65mm, IPC High Density)
footprint U20-1_M (TSOP, 20-Leads, Body 6.5x4.4mm, Pitch 0.65mm, IPC Low Density)
pins: 1 X1, 2 X2, 3 ~{WE} (in), 4 NC, 5 BAT1, 6 GND (power), 7 NC, 8 D (in), 9 Q (out), 10 GND (power), 11 ROM/~{RAM} (in), 12 ~{CEO} (out), 13 ~{CEI} (in), 14 NC, 15 ~{OE} (in), 16 ~{RST} (in), 17 NC, 18 BAT2, 19 VCCO (power), 20 VCCI (power)

## DS1315EN-33+
designator U?
Phantom Time Chip, 20-pin TSSOP, -40° to + 85° C, Pb-Free; DatasheetVersion: 1/05/2009; PackageVersion: revL, 2010; PackageReference: U20+1; PackageDescription: 20-Pin Thin Shrink Small-Outline Package, 4.4 mm Body, TSSOP, Pb-Free; Code_JEDEC: MO-153-AC; ComponentLink1Description: Manufacturer URL; ComponentLink1URL: www.maxim-ic.com; ComponentLink2Description: Datasheet; ComponentLink2URL: http://datasheets.maxim-ic.com/en/ds/DS1315.pdf
footprint U20+1_N (TSOP, 20-Leads, Body 6.5x4.4mm, Pitch 0.65mm, IPC Medium Density)
footprint U20+1_L (TSOP, 20-Leads, Body 6.5x4.4mm, Pitch 0.65mm, IPC High Density)
footprint U20+1_M (TSOP, 20-Leads, Body 6.5x4.4mm, Pitch 0.65mm, IPC Low Density)
pins: 1 X1, 2 X2, 3 ~{WE} (in), 4 NC, 5 BAT1, 6 GND (power), 7 NC, 8 D (in), 9 Q (out), 10 GND (power), 11 ROM/~{RAM} (in), 12 ~{CEO} (out), 13 ~{CEI} (in), 14 NC, 15 ~{OE} (in), 16 ~{RST} (in), 17 NC, 18 BAT2, 19 VCCO (power), 20 VCCI (power)

## DS1315EN-33+T&R
designator U?
Phantom Time Chip, 20-pin TSSOP, -40° to + 85° C, Pb-Free, Tape and Reel; DatasheetVersion: 1/05/2009; PackageVersion: revL, 2010; PackageReference: U20+1; PackageDescription: 20-Pin Thin Shrink Small-Outline Package, 4.4 mm Body, TSSOP, Pb-Free; Code_JEDEC: MO-153-AC; ComponentLink1Description: Manufacturer URL; ComponentLink1URL: www.maxim-ic.com; ComponentLink2Description: Datasheet; ComponentLink2URL: http://datasheets.maxim-ic.com/en/ds/DS1315.pdf
footprint U20+1_N (TSOP, 20-Leads, Body 6.5x4.4mm, Pitch 0.65mm, IPC Medium Density)
footprint U20+1_L (TSOP, 20-Leads, Body 6.5x4.4mm, Pitch 0.65mm, IPC High Density)
footprint U20+1_M (TSOP, 20-Leads, Body 6.5x4.4mm, Pitch 0.65mm, IPC Low Density)
pins: 1 X1, 2 X2, 3 ~{WE} (in), 4 NC, 5 BAT1, 6 GND (power), 7 NC, 8 D (in), 9 Q (out), 10 GND (power), 11 ROM/~{RAM} (in), 12 ~{CEO} (out), 13 ~{CEI} (in), 14 NC, 15 ~{OE} (in), 16 ~{RST} (in), 17 NC, 18 BAT2, 19 VCCO (power), 20 VCCI (power)

## DS1315EN-33/T&R
designator U?
Phantom Time Chip, 20-pin TSSOP, -40° to + 85° C, Tape and Reel; DatasheetVersion: 1/05/2009; PackageVersion: revL, 2010; PackageReference: U20-1; PackageDescription: 20-Pin Thin Shrink Small-Outline Package, 4.4 mm Body, TSSOP; Code_JEDEC: MO-153-AC; ComponentLink1Description: Manufacturer URL; ComponentLink1URL: www.maxim-ic.com; ComponentLink2Description: Datasheet; ComponentLink2URL: http://datasheets.maxim-ic.com/en/ds/DS1315.pdf
footprint U20-1_N (TSOP, 20-Leads, Body 6.5x4.4mm, Pitch 0.65mm, IPC Medium Density)
footprint U20-1_L (TSOP, 20-Leads, Body 6.5x4.4mm, Pitch 0.65mm, IPC High Density)
footprint U20-1_M (TSOP, 20-Leads, Body 6.5x4.4mm, Pitch 0.65mm, IPC Low Density)
pins: 1 X1, 2 X2, 3 ~{WE} (in), 4 NC, 5 BAT1, 6 GND (power), 7 NC, 8 D (in), 9 Q (out), 10 GND (power), 11 ROM/~{RAM} (in), 12 ~{CEO} (out), 13 ~{CEI} (in), 14 NC, 15 ~{OE} (in), 16 ~{RST} (in), 17 NC, 18 BAT2, 19 VCCO (power), 20 VCCI (power)

## DS1315N-5+
designator U?
Phantom Time Chip, 16-pin PDIP, -40° to + 85° C, Pb-Free; DatasheetVersion: 1/05/2009; PackageVersion: revE, 2011; PackageReference: P16+1; PackageDescription: 16-Pin Plastic Dual-In-Line, Narrow (0.3in), Pitch 2.54 mm, PDIP(N), Pb-Free; Code_JEDEC: MS-001-AA; ComponentLink1Description: Manufacturer URL; ComponentLink1URL: www.maxim-ic.com; ComponentLink2Description: Datasheet; ComponentLink2URL: http://datasheets.maxim-ic.com/en/ds/DS1315.pdf
footprint P16+1 (DIP, 16-Leads, Row Spacing 7.62mm, Pitch 2.54mm, Body 19.2x7mm)
pins: 1 X1, 2 X2, 3 ~{WE} (in), 4 BAT1, 5 GND (power), 6 D (in), 7 Q (out), 8 GND (power), 9 ROM/~{RAM} (in), 10 ~{CEO} (out), 11 ~{CEI} (in), 12 ~{OE} (in), 13 ~{RST} (in), 14 BAT2, 15 VCCO (power), 16 VCCI (power)

## DS1315N-33+
designator U?
Phantom Time Chip, 16-pin PDIP, -40° to + 85° C, Pb-Free; DatasheetVersion: 1/05/2009; PackageVersion: revE, 2011; PackageReference: P16+1; PackageDescription: 16-Pin Plastic Dual-In-Line, Narrow (0.3in), Pitch 2.54 mm, PDIP(N), Pb-Free; Code_JEDEC: MS-001-AA; ComponentLink1Description: Manufacturer URL; ComponentLink1URL: www.maxim-ic.com; ComponentLink2Description: Datasheet; ComponentLink2URL: http://datasheets.maxim-ic.com/en/ds/DS1315.pdf
footprint P16+1 (DIP, 16-Leads, Row Spacing 7.62mm, Pitch 2.54mm, Body 19.2x7mm)
pins: 1 X1, 2 X2, 3 ~{WE} (in), 4 BAT1, 5 GND (power), 6 D (in), 7 Q (out), 8 GND (power), 9 ROM/~{RAM} (in), 10 ~{CEO} (out), 11 ~{CEI} (in), 12 ~{OE} (in), 13 ~{RST} (in), 14 BAT2, 15 VCCO (power), 16 VCCI (power)

## DS1315S-5
designator U?
Phantom Time Chip, 16-pin SOIC, 0° to + 70° C; DatasheetVersion: 1/05/2009; PackageVersion: revD, 2010; PackageReference: W16-2; PackageDescription: 16-Pin Small-Outline IC, Wide (0.3in), 1.27 mm Pitch, SOIC (W); Code_JEDEC: MS-013-AA; Code_IPC: SOIC127P1030-16; ComponentLink1Description: Manufacturer URL; ComponentLink1URL: www.maxim-ic.com; ComponentLink2Description: Datasheet; ComponentLink2URL: http://datasheets.maxim-ic.com/en/ds/DS1315.pdf
footprint W16-2_N (SOIC, 16-Leads, Body 10.3x7.5mm, Pitch 1.27mm, IPC Medium Density)
footprint W16-2_L (SOIC, 16-Leads, Body 10.3x7.5mm, Pitch 1.27mm, IPC High Density)
footprint W16-2_M (SOIC, 16-Leads, Body 10.3x7.5mm, Pitch 1.27mm, IPC Low Density)
pins: 1 X1, 2 X2, 3 ~{WE} (in), 4 BAT1, 5 GND (power), 6 D (in), 7 Q (out), 8 GND (power), 9 ROM/~{RAM} (in), 10 ~{CEO} (out), 11 ~{CEI} (in), 12 ~{OE} (in), 13 ~{RST} (in), 14 BAT2, 15 VCCO (power), 16 VCCI (power)

## DS1315S-5+
designator U?
Phantom Time Chip, 16-pin SOIC, 0° to + 70° C, Pb-Free; DatasheetVersion: 1/05/2009; PackageVersion: revD, 2010; PackageReference: W16+2; PackageDescription: 16-Pin Small-Outline IC, Wide (0.3in), 1.27 mm Pitch, SOIC (W), Pb-Free; Code_JEDEC: MS-013-AA; Code_IPC: SOIC127P1030-16; ComponentLink1Description: Manufacturer URL; ComponentLink1URL: www.maxim-ic.com; ComponentLink2Description: Datasheet; ComponentLink2URL: http://datasheets.maxim-ic.com/en/ds/DS1315.pdf
footprint W16+2_N (SOIC, 16-Leads, Body 10.3x7.5mm, Pitch 1.27mm, IPC Medium Density)
footprint W16+2_L (SOIC, 16-Leads, Body 10.3x7.5mm, Pitch 1.27mm, IPC High Density)
footprint W16+2_M (SOIC, 16-Leads, Body 10.3x7.5mm, Pitch 1.27mm, IPC Low Density)
pins: 1 X1, 2 X2, 3 ~{WE} (in), 4 BAT1, 5 GND (power), 6 D (in), 7 Q (out), 8 GND (power), 9 ROM/~{RAM} (in), 10 ~{CEO} (out), 11 ~{CEI} (in), 12 ~{OE} (in), 13 ~{RST} (in), 14 BAT2, 15 VCCO (power), 16 VCCI (power)

## DS1315S-5+T&R
designator U?
Phantom Time Chip, 16-pin SOIC, 0° to + 70° C, Pb-Free, Tape and Reel; DatasheetVersion: 1/05/2009; PackageVersion: revD, 2010; PackageReference: W16+2; PackageDescription: 16-Pin Small-Outline IC, Wide (0.3in), 1.27 mm Pitch, SOIC (W), Pb-Free; Code_JEDEC: MS-013-AA; Code_IPC: SOIC127P1030-16; ComponentLink1Description: Manufacturer URL; ComponentLink1URL: www.maxim-ic.com; ComponentLink2Description: Datasheet; ComponentLink2URL: http://datasheets.maxim-ic.com/en/ds/DS1315.pdf
footprint W16+2_N (SOIC, 16-Leads, Body 10.3x7.5mm, Pitch 1.27mm, IPC Medium Density)
footprint W16+2_L (SOIC, 16-Leads, Body 10.3x7.5mm, Pitch 1.27mm, IPC High Density)
footprint W16+2_M (SOIC, 16-Leads, Body 10.3x7.5mm, Pitch 1.27mm, IPC Low Density)
pins: 1 X1, 2 X2, 3 ~{WE} (in), 4 BAT1, 5 GND (power), 6 D (in), 7 Q (out), 8 GND (power), 9 ROM/~{RAM} (in), 10 ~{CEO} (out), 11 ~{CEI} (in), 12 ~{OE} (in), 13 ~{RST} (in), 14 BAT2, 15 VCCO (power), 16 VCCI (power)

## DS1315S-33+
designator U?
Phantom Time Chip, 16-pin SOIC, 0° to + 70° C, Pb-Free; DatasheetVersion: 1/05/2009; PackageVersion: revD, 2010; PackageReference: W16+2; PackageDescription: 16-Pin Small-Outline IC, Wide (0.3in), 1.27 mm Pitch, SOIC (W), Pb-Free; Code_JEDEC: MS-013-AA; Code_IPC: SOIC127P1030-16; ComponentLink1Description: Manufacturer URL; ComponentLink1URL: www.maxim-ic.com; ComponentLink2Description: Datasheet; ComponentLink2URL: http://datasheets.maxim-ic.com/en/ds/DS1315.pdf
footprint W16+2_N (SOIC, 16-Leads, Body 10.3x7.5mm, Pitch 1.27mm, IPC Medium Density)
footprint W16+2_L (SOIC, 16-Leads, Body 10.3x7.5mm, Pitch 1.27mm, IPC High Density)
footprint W16+2_M (SOIC, 16-Leads, Body 10.3x7.5mm, Pitch 1.27mm, IPC Low Density)
pins: 1 X1, 2 X2, 3 ~{WE} (in), 4 BAT1, 5 GND (power), 6 D (in), 7 Q (out), 8 GND (power), 9 ROM/~{RAM} (in), 10 ~{CEO} (out), 11 ~{CEI} (in), 12 ~{OE} (in), 13 ~{RST} (in), 14 BAT2, 15 VCCO (power), 16 VCCI (power)

## DS1315S-33+T&R
designator U?
Phantom Time Chip, 16-pin SOIC, 0° to + 70° C, Pb-Free, Tape and Reel; DatasheetVersion: 1/05/2009; PackageVersion: revD, 2010; PackageReference: W16+2; PackageDescription: 16-Pin Small-Outline IC, Wide (0.3in), 1.27 mm Pitch, SOIC (W), Pb-Free; Code_JEDEC: MS-013-AA; Code_IPC: SOIC127P1030-16; ComponentLink1Description: Manufacturer URL; ComponentLink1URL: www.maxim-ic.com; ComponentLink2Description: Datasheet; ComponentLink2URL: http://datasheets.maxim-ic.com/en/ds/DS1315.pdf
footprint W16+2_N (SOIC, 16-Leads, Body 10.3x7.5mm, Pitch 1.27mm, IPC Medium Density)
footprint W16+2_L (SOIC, 16-Leads, Body 10.3x7.5mm, Pitch 1.27mm, IPC High Density)
footprint W16+2_M (SOIC, 16-Leads, Body 10.3x7.5mm, Pitch 1.27mm, IPC Low Density)
pins: 1 X1, 2 X2, 3 ~{WE} (in), 4 BAT1, 5 GND (power), 6 D (in), 7 Q (out), 8 GND (power), 9 ROM/~{RAM} (in), 10 ~{CEO} (out), 11 ~{CEI} (in), 12 ~{OE} (in), 13 ~{RST} (in), 14 BAT2, 15 VCCO (power), 16 VCCI (power)

## DS1315SN-5
designator U?
Phantom Time Chip, 16-pin SOIC, -40° to + 85° C; DatasheetVersion: 1/05/2009; PackageVersion: revD, 2010; PackageReference: W16-2; PackageDescription: 16-Pin Small-Outline IC, Wide (0.3in), 1.27 mm Pitch, SOIC (W); Code_JEDEC: MS-013-AA; Code_IPC: SOIC127P1030-16; ComponentLink1Description: Manufacturer URL; ComponentLink1URL: www.maxim-ic.com; ComponentLink2Description: Datasheet; ComponentLink2URL: http://datasheets.maxim-ic.com/en/ds/DS1315.pdf
footprint W16-2_N (SOIC, 16-Leads, Body 10.3x7.5mm, Pitch 1.27mm, IPC Medium Density)
footprint W16-2_L (SOIC, 16-Leads, Body 10.3x7.5mm, Pitch 1.27mm, IPC High Density)
footprint W16-2_M (SOIC, 16-Leads, Body 10.3x7.5mm, Pitch 1.27mm, IPC Low Density)
pins: 1 X1, 2 X2, 3 ~{WE} (in), 4 BAT1, 5 GND (power), 6 D (in), 7 Q (out), 8 GND (power), 9 ROM/~{RAM} (in), 10 ~{CEO} (out), 11 ~{CEI} (in), 12 ~{OE} (in), 13 ~{RST} (in), 14 BAT2, 15 VCCO (power), 16 VCCI (power)

## DS1315SN-5+
designator U?
Phantom Time Chip, 16-pin SOIC, -40° to + 85° C, Pb-Free; DatasheetVersion: 1/05/2009; PackageVersion: revD, 2010; PackageReference: W16+2; PackageDescription: 16-Pin Small-Outline IC, Wide (0.3in), 1.27 mm Pitch, SOIC (W), Pb-Free; Code_JEDEC: MS-013-AA; Code_IPC: SOIC127P1030-16; ComponentLink1Description: Manufacturer URL; ComponentLink1URL: www.maxim-ic.com; ComponentLink2Description: Datasheet; ComponentLink2URL: http://datasheets.maxim-ic.com/en/ds/DS1315.pdf
footprint W16+2_N (SOIC, 16-Leads, Body 10.3x7.5mm, Pitch 1.27mm, IPC Medium Density)
footprint W16+2_L (SOIC, 16-Leads, Body 10.3x7.5mm, Pitch 1.27mm, IPC High Density)
footprint W16+2_M (SOIC, 16-Leads, Body 10.3x7.5mm, Pitch 1.27mm, IPC Low Density)
pins: 1 X1, 2 X2, 3 ~{WE} (in), 4 BAT1, 5 GND (power), 6 D (in), 7 Q (out), 8 GND (power), 9 ROM/~{RAM} (in), 10 ~{CEO} (out), 11 ~{CEI} (in), 12 ~{OE} (in), 13 ~{RST} (in), 14 BAT2, 15 VCCO (power), 16 VCCI (power)

## DS1315SN-33+
designator U?
Phantom Time Chip, 16-pin SOIC, -40° to + 85° C, Pb-Free; DatasheetVersion: 1/05/2009; PackageVersion: revD, 2010; PackageReference: W16+2; PackageDescription: 16-Pin Small-Outline IC, Wide (0.3in), 1.27 mm Pitch, SOIC (W), Pb-Free; Code_JEDEC: MS-013-AA; Code_IPC: SOIC127P1030-16; ComponentLink1Description: Manufacturer URL; ComponentLink1URL: www.maxim-ic.com; ComponentLink2Description: Datasheet; ComponentLink2URL: http://datasheets.maxim-ic.com/en/ds/DS1315.pdf
footprint W16+2_N (SOIC, 16-Leads, Body 10.3x7.5mm, Pitch 1.27mm, IPC Medium Density)
footprint W16+2_L (SOIC, 16-Leads, Body 10.3x7.5mm, Pitch 1.27mm, IPC High Density)
footprint W16+2_M (SOIC, 16-Leads, Body 10.3x7.5mm, Pitch 1.27mm, IPC Low Density)
pins: 1 X1, 2 X2, 3 ~{WE} (in), 4 BAT1, 5 GND (power), 6 D (in), 7 Q (out), 8 GND (power), 9 ROM/~{RAM} (in), 10 ~{CEO} (out), 11 ~{CEI} (in), 12 ~{OE} (in), 13 ~{RST} (in), 14 BAT2, 15 VCCO (power), 16 VCCI (power)

## DS1321
designator U?
Flexible Nonvolatile Controller with Lithium Battery Monitor, 16-pin PDIP, -40° to + 85° C; DatasheetVersion: 1/09/2004; PackageVersion: revE, 2011; PackageReference: P16-1; PackageDescription: 16-Pin Plastic Dual-In-Line, Narrow (0.3in), Pitch 2.54 mm, PDIP(N); Code_JEDEC: MS-001-AA; ComponentLink1Description: Manufacturer URL; ComponentLink1URL: www.maxim-ic.com; ComponentLink2Description: Datasheet; ComponentLink2URL: http://datasheets.maxim-ic.com/en/ds/DS1321.pdf
footprint P16-1 (DIP, 16-Leads, Row Spacing 7.62mm, Pitch 2.54mm, Body 19.2x7mm)
pins: 1 VCCO (power), 2 VBAT, 3 TOL, 4 ~{CEI1} (in), 5 ~{CEI2} (in), 6 A/~{CEI3} (in), 7 B/~{CEI4} (in), 8 GND (power), 9 MODE (in), 10 ~{CEO4} (out), 11 ~{CEO3} (out), 12 ~{CEO2} (out), 13 ~{CEO1} (out), 14 ~{BW} (out), 15 ~{RST} (out), 16 VCCI (power)

## DS1321+
designator U?
Flexible Nonvolatile Controller with Lithium Battery Monitor, 16-pin PDIP, -40° to + 85° C, Pb-Free; DatasheetVersion: 1/09/2004; PackageVersion: revE, 2011; PackageReference: P16+1; PackageDescription: 16-Pin Plastic Dual-In-Line, Narrow (0.3in), Pitch 2.54 mm, PDIP(N), Pb-Free; Code_JEDEC: MS-001-AA; ComponentLink1Description: Manufacturer URL; ComponentLink1URL: www.maxim-ic.com; ComponentLink2Description: Datasheet; ComponentLink2URL: http://datasheets.maxim-ic.com/en/ds/DS1321.pdf
footprint P16+1 (DIP, 16-Leads, Row Spacing 7.62mm, Pitch 2.54mm, Body 19.2x7mm)
pins: 1 VCCO (power), 2 VBAT, 3 TOL, 4 ~{CEI1} (in), 5 ~{CEI2} (in), 6 A/~{CEI3} (in), 7 B/~{CEI4} (in), 8 GND (power), 9 MODE (in), 10 ~{CEO4} (out), 11 ~{CEO3} (out), 12 ~{CEO2} (out), 13 ~{CEO1} (out), 14 ~{BW} (out), 15 ~{RST} (out), 16 VCCI (power)

## DS1321E
designator U?
Flexible Nonvolatile Controller with Lithium Battery Monitor, 20-pin TSSOP, -40° to + 85° C; DatasheetVersion: 1/09/2004; PackageVersion: revL, 2010; PackageReference: U20-1; PackageDescription: 20-Pin Thin Shrink Small-Outline Package, 4.4 mm Body, TSSOP; Code_JEDEC: MO-153-AC; ComponentLink1Description: Manufacturer URL; ComponentLink1URL: www.maxim-ic.com; ComponentLink2Description: Datasheet; ComponentLink2URL: http://datasheets.maxim-ic.com/en/ds/DS1321.pdf
footprint U20-1_N (TSOP, 20-Leads, Body 6.5x4.4mm, Pitch 0.65mm, IPC Medium Density)
footprint U20-1_L (TSOP, 20-Leads, Body 6.5x4.4mm, Pitch 0.65mm, IPC High Density)
footprint U20-1_M (TSOP, 20-Leads, Body 6.5x4.4mm, Pitch 0.65mm, IPC Low Density)
pins: 1 VCCO (power), 2 VBAT, 3 TOL, 4 ~{CEI1} (in), 5 ~{CEI2} (in), 6 NC, 7 A/~{CEI3} (in), 8 B/~{CEI4} (in), 9 NC, 10 GND (power), 11 MODE (in), 12 NC, 13 ~{CEO4} (out), 14 ~{CEO3} (out), 15 NC, 16 ~{CEO2} (out), 17 ~{CEO1} (out), 18 ~{BW} (out), 19 ~{RST} (out), 20 VCCI (power)

## DS1321E+
designator U?
Flexible Nonvolatile Controller with Lithium Battery Monitor, 20-pin TSSOP, -40° to + 85° C, Pb-Free; DatasheetVersion: 1/09/2004; PackageVersion: revL, 2010; PackageReference: U20+1; PackageDescription: 20-Pin Thin Shrink Small-Outline Package, 4.4 mm Body, TSSOP, Pb-Free; Code_JEDEC: MO-153-AC; ComponentLink1Description: Manufacturer URL; ComponentLink1URL: www.maxim-ic.com; ComponentLink2Description: Datasheet; ComponentLink2URL: http://datasheets.maxim-ic.com/en/ds/DS1321.pdf
footprint U20+1_N (TSOP, 20-Leads, Body 6.5x4.4mm, Pitch 0.65mm, IPC Medium Density)
footprint U20+1_L (TSOP, 20-Leads, Body 6.5x4.4mm, Pitch 0.65mm, IPC High Density)
footprint U20+1_M (TSOP, 20-Leads, Body 6.5x4.4mm, Pitch 0.65mm, IPC Low Density)
pins: 1 VCCO (power), 2 VBAT, 3 TOL, 4 ~{CEI1} (in), 5 ~{CEI2} (in), 6 NC, 7 A/~{CEI3} (in), 8 B/~{CEI4} (in), 9 NC, 10 GND (power), 11 MODE (in), 12 NC, 13 ~{CEO4} (out), 14 ~{CEO3} (out), 15 NC, 16 ~{CEO2} (out), 17 ~{CEO1} (out), 18 ~{BW} (out), 19 ~{RST} (out), 20 VCCI (power)

## DS1321E+T&R
designator U?
Flexible Nonvolatile Controller with Lithium Battery Monitor, 20-pin TSSOP, -40° to + 85° C, Pb-Free, Tape and Reel; DatasheetVersion: 1/09/2004; PackageVersion: revL, 2010; PackageReference: U20+1; PackageDescription: 20-Pin Thin Shrink Small-Outline Package, 4.4 mm Body, TSSOP, Pb-Free; Code_JEDEC: MO-153-AC; ComponentLink1Description: Manufacturer URL; ComponentLink1URL: www.maxim-ic.com; ComponentLink2Description: Datasheet; ComponentLink2URL: http://datasheets.maxim-ic.com/en/ds/DS1321.pdf
footprint U20+1_N (TSOP, 20-Leads, Body 6.5x4.4mm, Pitch 0.65mm, IPC Medium Density)
footprint U20+1_L (TSOP, 20-Leads, Body 6.5x4.4mm, Pitch 0.65mm, IPC High Density)
footprint U20+1_M (TSOP, 20-Leads, Body 6.5x4.4mm, Pitch 0.65mm, IPC Low Density)
pins: 1 VCCO (power), 2 VBAT, 3 TOL, 4 ~{CEI1} (in), 5 ~{CEI2} (in), 6 NC, 7 A/~{CEI3} (in), 8 B/~{CEI4} (in), 9 NC, 10 GND (power), 11 MODE (in), 12 NC, 13 ~{CEO4} (out), 14 ~{CEO3} (out), 15 NC, 16 ~{CEO2} (out), 17 ~{CEO1} (out), 18 ~{BW} (out), 19 ~{RST} (out), 20 VCCI (power)

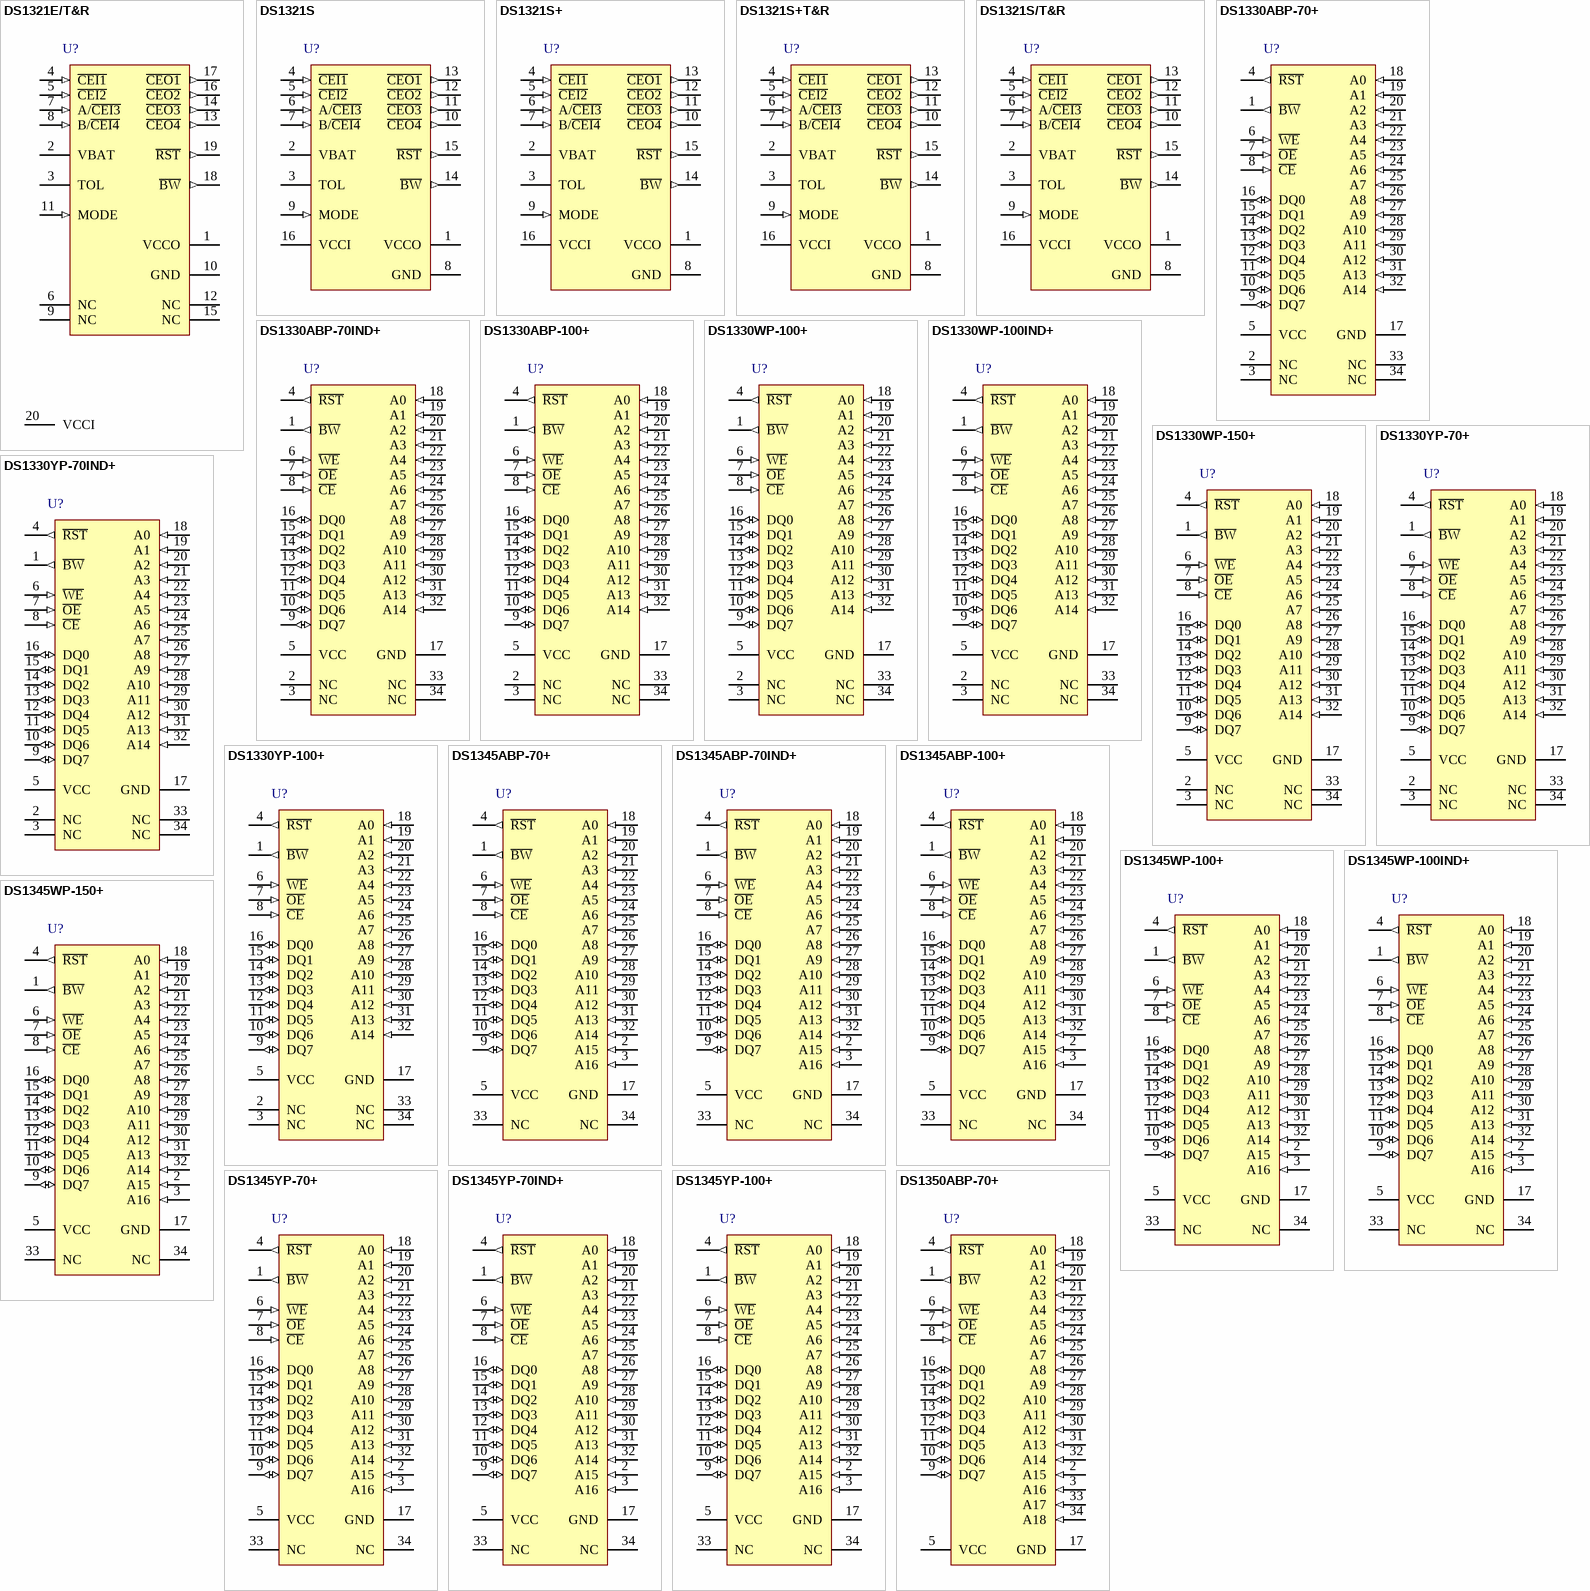
[diagram p10: symbols DS1321E/T&R to DS1350ABP-70+]

## DS1321E/T&R
designator U?
Flexible Nonvolatile Controller with Lithium Battery Monitor, 20-pin TSSOP, -40° to + 85° C, Tape and Reel; DatasheetVersion: 1/09/2004; PackageVersion: revL, 2010; PackageReference: U20-1; PackageDescription: 20-Pin Thin Shrink Small-Outline Package, 4.4 mm Body, TSSOP; Code_JEDEC: MO-153-AC; ComponentLink1Description: Manufacturer URL; ComponentLink1URL: www.maxim-ic.com; ComponentLink2Description: Datasheet; ComponentLink2URL: http://datasheets.maxim-ic.com/en/ds/DS1321.pdf
footprint U20-1_N (TSOP, 20-Leads, Body 6.5x4.4mm, Pitch 0.65mm, IPC Medium Density)
footprint U20-1_L (TSOP, 20-Leads, Body 6.5x4.4mm, Pitch 0.65mm, IPC High Density)
footprint U20-1_M (TSOP, 20-Leads, Body 6.5x4.4mm, Pitch 0.65mm, IPC Low Density)
pins: 1 VCCO (power), 2 VBAT, 3 TOL, 4 ~{CEI1} (in), 5 ~{CEI2} (in), 6 NC, 7 A/~{CEI3} (in), 8 B/~{CEI4} (in), 9 NC, 10 GND (power), 11 MODE (in), 12 NC, 13 ~{CEO4} (out), 14 ~{CEO3} (out), 15 NC, 16 ~{CEO2} (out), 17 ~{CEO1} (out), 18 ~{BW} (out), 19 ~{RST} (out), 20 VCCI (power)

## DS1321S
designator U?
Flexible Nonvolatile Controller with Lithium Battery Monitor, 16-pin SOIC, -40° to + 85° C; DatasheetVersion: 1/09/2004; PackageVersion: revC, 2010; PackageReference: S16-1; PackageDescription: 16-Pin Small-Outline IC, Narrow (0.15in), 1.27 mm Pitch, SOIC (N); Code_JEDEC: MS-012-AC; Code_IPC: SOIC127P600-16; ComponentLink1Description: Manufacturer URL; ComponentLink1URL: www.maxim-ic.com; ComponentLink2Description: Datasheet; ComponentLink2URL: http://datasheets.maxim-ic.com/en/ds/DS1321.pdf
footprint S16-1_N (SOIC, 16-Leads, Body 9.9x3.9mm, Pitch 1.27mm, IPC Medium Density)
footprint S16-1_L (SOIC, 16-Leads, Body 9.9x3.9mm, Pitch 1.27mm, IPC High Density)
footprint S16-1_M (SOIC, 16-Leads, Body 9.9x3.9mm, Pitch 1.27mm, IPC Low Density)
pins: 1 VCCO (power), 2 VBAT, 3 TOL, 4 ~{CEI1} (in), 5 ~{CEI2} (in), 6 A/~{CEI3} (in), 7 B/~{CEI4} (in), 8 GND (power), 9 MODE (in), 10 ~{CEO4} (out), 11 ~{CEO3} (out), 12 ~{CEO2} (out), 13 ~{CEO1} (out), 14 ~{BW} (out), 15 ~{RST} (out), 16 VCCI (power)

## DS1321S+
designator U?
Flexible Nonvolatile Controller with Lithium Battery Monitor, 16-pin SOIC, -40° to + 85° C, Pb-Free; DatasheetVersion: 1/09/2004; PackageVersion: revC, 2010; PackageReference: S16+1; PackageDescription: 16-Pin Small-Outline IC, Narrow (0.15in), 1.27 mm Pitch, SOIC (N), Pb-Free; Code_JEDEC: MS-012-AC; Code_IPC: SOIC127P600-16; ComponentLink1Description: Manufacturer URL; ComponentLink1URL: www.maxim-ic.com; ComponentLink2Description: Datasheet; ComponentLink2URL: http://datasheets.maxim-ic.com/en/ds/DS1321.pdf
footprint S16+1_N (SOIC, 16-Leads, Body 9.9x3.9mm, Pitch 1.27mm, IPC Medium Density)
footprint S16+1_L (SOIC, 16-Leads, Body 9.9x3.9mm, Pitch 1.27mm, IPC High Density)
footprint S16+1_M (SOIC, 16-Leads, Body 9.9x3.9mm, Pitch 1.27mm, IPC Low Density)
pins: 1 VCCO (power), 2 VBAT, 3 TOL, 4 ~{CEI1} (in), 5 ~{CEI2} (in), 6 A/~{CEI3} (in), 7 B/~{CEI4} (in), 8 GND (power), 9 MODE (in), 10 ~{CEO4} (out), 11 ~{CEO3} (out), 12 ~{CEO2} (out), 13 ~{CEO1} (out), 14 ~{BW} (out), 15 ~{RST} (out), 16 VCCI (power)

## DS1321S+T&R
designator U?
Flexible Nonvolatile Controller with Lithium Battery Monitor, 16-pin SOIC, -40° to + 85° C, Pb-Free, Tape and Reel; DatasheetVersion: 1/09/2004; PackageVersion: revC, 2010; PackageReference: S16+1; PackageDescription: 16-Pin Small-Outline IC, Narrow (0.15in), 1.27 mm Pitch, SOIC (N), Pb-Free; Code_JEDEC: MS-012-AC; Code_IPC: SOIC127P600-16; ComponentLink1Description: Manufacturer URL; ComponentLink1URL: www.maxim-ic.com; ComponentLink2Description: Datasheet; ComponentLink2URL: http://datasheets.maxim-ic.com/en/ds/DS1321.pdf
footprint S16+1_N (SOIC, 16-Leads, Body 9.9x3.9mm, Pitch 1.27mm, IPC Medium Density)
footprint S16+1_L (SOIC, 16-Leads, Body 9.9x3.9mm, Pitch 1.27mm, IPC High Density)
footprint S16+1_M (SOIC, 16-Leads, Body 9.9x3.9mm, Pitch 1.27mm, IPC Low Density)
pins: 1 VCCO (power), 2 VBAT, 3 TOL, 4 ~{CEI1} (in), 5 ~{CEI2} (in), 6 A/~{CEI3} (in), 7 B/~{CEI4} (in), 8 GND (power), 9 MODE (in), 10 ~{CEO4} (out), 11 ~{CEO3} (out), 12 ~{CEO2} (out), 13 ~{CEO1} (out), 14 ~{BW} (out), 15 ~{RST} (out), 16 VCCI (power)

## DS1321S/T&R
designator U?
Flexible Nonvolatile Controller with Lithium Battery Monitor, 16-pin SOIC, -40° to + 85° C, Tape and Reel; DatasheetVersion: 1/09/2004; PackageVersion: revC, 2010; PackageReference: S16-1; PackageDescription: 16-Pin Small-Outline IC, Narrow (0.15in), 1.27 mm Pitch, SOIC (N); Code_JEDEC: MS-012-AC; Code_IPC: SOIC127P600-16; ComponentLink1Description: Manufacturer URL; ComponentLink1URL: www.maxim-ic.com; ComponentLink2Description: Datasheet; ComponentLink2URL: http://datasheets.maxim-ic.com/en/ds/DS1321.pdf
footprint S16-1_N (SOIC, 16-Leads, Body 9.9x3.9mm, Pitch 1.27mm, IPC Medium Density)
footprint S16-1_L (SOIC, 16-Leads, Body 9.9x3.9mm, Pitch 1.27mm, IPC High Density)
footprint S16-1_M (SOIC, 16-Leads, Body 9.9x3.9mm, Pitch 1.27mm, IPC Low Density)
pins: 1 VCCO (power), 2 VBAT, 3 TOL, 4 ~{CEI1} (in), 5 ~{CEI2} (in), 6 A/~{CEI3} (in), 7 B/~{CEI4} (in), 8 GND (power), 9 MODE (in), 10 ~{CEO4} (out), 11 ~{CEO3} (out), 12 ~{CEO2} (out), 13 ~{CEO1} (out), 14 ~{BW} (out), 15 ~{RST} (out), 16 VCCI (power)

## DS1330ABP-70+
designator U?
256Kb Nonvolatile SRAM with Battery Monitor, +/-5% VCC Operating range, 34-pin PCAP, 0° to + 70° C, Pb-Free; DatasheetVersion: 1/10/2010; PackageVersion: revA, 2004; PackageReference: PC2+4; PackageDescription: 34-Pin PowerCap 0.990 Module with Cap, Pb-Free; ComponentLink1Description: Manufacturer URL; ComponentLink1URL: www.maxim-ic.com; ComponentLink2Description: Datasheet; ComponentLink2URL: http://datasheets.maxim-ic.com/en/ds/DS1330AB-DS1330Y.pdf
footprint PC2+4 (PowerCap Module with Cap, 34-Leads, Body 24.7 x.25.3mm, Pitch 1.27mm)
pins: 1 ~{BW} (out), 2 NC, 3 NC, 4 ~{RST} (out), 5 VCC (power), 6 ~{WE} (in), 7 ~{OE} (in), 8 ~{CE} (in), 9 DQ7 (io), 10 DQ6 (io), 11 DQ5 (io), 12 DQ4 (io), 13 DQ3 (io), 14 DQ2 (io), 15 DQ1 (io), 16 DQ0 (io), 17 GND (power), 18 A0 (in), 19 A1 (in), 20 A2 (in), 21 A3 (in), 22 A4 (in), 23 A5 (in), 24 A6 (in), 25 A7 (in), 26 A8 (in), 27 A9 (in), 28 A10 (in), 29 A11 (in), 30 A12 (in), 31 A13 (in), 32 A14 (in), 33 NC, 34 NC

## DS1330ABP-70IND+
designator U?
256Kb Nonvolatile SRAM with Battery Monitor, +/-5% VCC Operating range, 34-pin PCAP, -40° to + 85° C, Pb-Free; DatasheetVersion: 1/10/2010; PackageVersion: revA, 2004; PackageReference: PC2+4; PackageDescription: 34-Pin PowerCap 0.990 Module with Cap, Pb-Free; ComponentLink1Description: Manufacturer URL; ComponentLink1URL: www.maxim-ic.com; ComponentLink2Description: Datasheet; ComponentLink2URL: http://datasheets.maxim-ic.com/en/ds/DS1330AB-DS1330Y.pdf
footprint PC2+4 (PowerCap Module with Cap, 34-Leads, Body 24.7 x.25.3mm, Pitch 1.27mm)
pins: 1 ~{BW} (out), 2 NC, 3 NC, 4 ~{RST} (out), 5 VCC (power), 6 ~{WE} (in), 7 ~{OE} (in), 8 ~{CE} (in), 9 DQ7 (io), 10 DQ6 (io), 11 DQ5 (io), 12 DQ4 (io), 13 DQ3 (io), 14 DQ2 (io), 15 DQ1 (io), 16 DQ0 (io), 17 GND (power), 18 A0 (in), 19 A1 (in), 20 A2 (in), 21 A3 (in), 22 A4 (in), 23 A5 (in), 24 A6 (in), 25 A7 (in), 26 A8 (in), 27 A9 (in), 28 A10 (in), 29 A11 (in), 30 A12 (in), 31 A13 (in), 32 A14 (in), 33 NC, 34 NC

## DS1330ABP-100+
designator U?
256Kb Nonvolatile SRAM with Battery Monitor, +/-5% VCC Operating range, 34-pin PCAP, 0° to + 70° C, Pb-Free; DatasheetVersion: 1/10/2010; PackageVersion: revA, 2004; PackageReference: PC2+4; PackageDescription: 34-Pin PowerCap 0.990 Module with Cap, Pb-Free; ComponentLink1Description: Manufacturer URL; ComponentLink1URL: www.maxim-ic.com; ComponentLink2Description: Datasheet; ComponentLink2URL: http://datasheets.maxim-ic.com/en/ds/DS1330AB-DS1330Y.pdf
footprint PC2+4 (PowerCap Module with Cap, 34-Leads, Body 24.7 x.25.3mm, Pitch 1.27mm)
pins: 1 ~{BW} (out), 2 NC, 3 NC, 4 ~{RST} (out), 5 VCC (power), 6 ~{WE} (in), 7 ~{OE} (in), 8 ~{CE} (in), 9 DQ7 (io), 10 DQ6 (io), 11 DQ5 (io), 12 DQ4 (io), 13 DQ3 (io), 14 DQ2 (io), 15 DQ1 (io), 16 DQ0 (io), 17 GND (power), 18 A0 (in), 19 A1 (in), 20 A2 (in), 21 A3 (in), 22 A4 (in), 23 A5 (in), 24 A6 (in), 25 A7 (in), 26 A8 (in), 27 A9 (in), 28 A10 (in), 29 A11 (in), 30 A12 (in), 31 A13 (in), 32 A14 (in), 33 NC, 34 NC